# Altium footprint library X_3.2x1.5.PcbLib: 1 footprints
Each footprint in its own frame and in the unit in brackets; x right, y up, seen from the top. Pads: shape width x height; smd on the part's side, far side on the other; paste and mask are expansions set on the pad; w line width, h text height; cw(c..) or ccw(c..) is an arc to the next point about the centre after c.
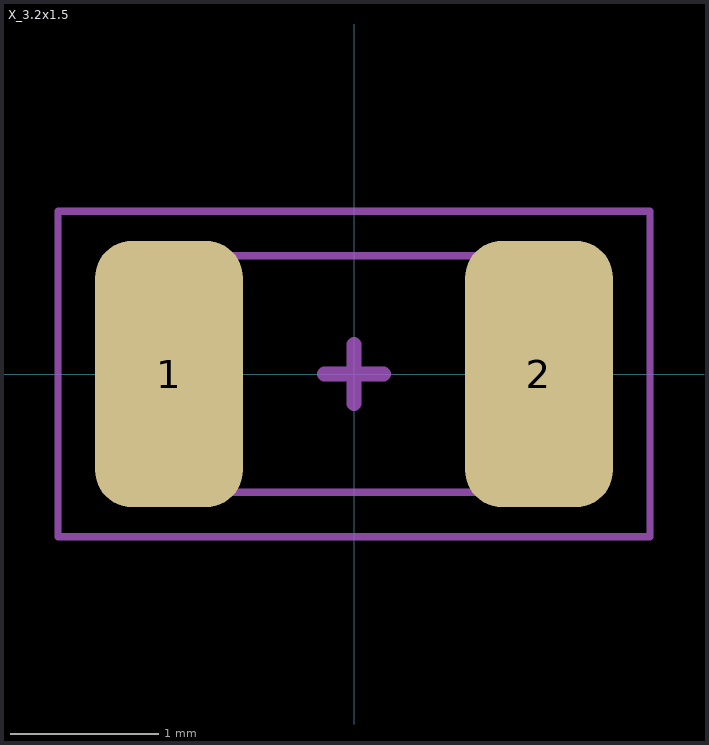
[diagram p0: the footprint, top view; thin cyan lines are the x and y axes]

## X_3.2x1.5 [mm]
pads (2):
  rrect50% 1x1.8 smd mask+0.05: 1(-1.25,0) 2(1.25,0)
Top Assembly:
  lines w0.05: -1.6,-0.8 -1.6,0.8 1.6,0.8 1.6,-0.8 -1.6,-0.8
  lines w0.1: -0.2,0 0.2,0 ; 0,-0.2 0,0.2
Top Courtyard:
  lines w0.05: -2,-1.1 2,-1.1 2,1.1 -2,1.1 -2,-1.1
3D body "FC-135.stp": height 0.83, standoff -0.01, extent -1.6,-0.75 1.6,0.75